# EAGLE library part NATHANS-CUSTOM-PARTS_POLOLU_MAX14870 (library explorator_mainboard_v0_90mm)
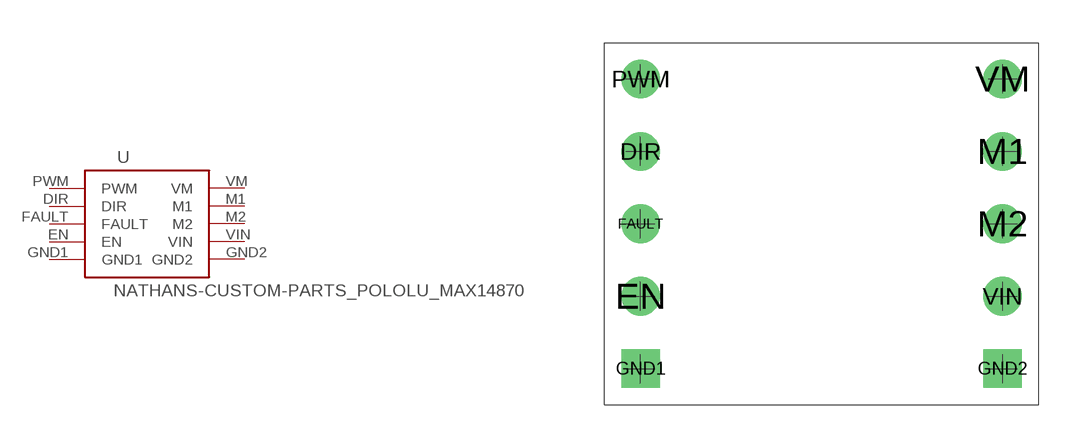
[diagram p1: symbol with the pads of NATHANS-CUSTOM-PARTS_POLOLU_MAX14870; footprint NATHANS-CUSTOM-PARTS_POLOLU_MAX14870]

Designator prefix -

## NATHANS-CUSTOM-PARTS_POLOLU_MAX14870  [NATHANS-CUSTOM-PARTS_POLOLU_MAX14870]
DIR  DIR
EN  EN
FAULT  FAULT
GND1  GND1
GND2  GND2
M1  M1
M2  M2
PWM  PWM
VIN  VIN
VM  VM

## Footprint NATHANS-CUSTOM-PARTS_POLOLU_MAX14870 (pad centres in mm)
drill 0.85: DIR 1.27,8.89; EN 1.27,3.81; FAULT 1.27,6.35; M1 13.97,8.89; M2 13.97,6.35; PWM 1.27,11.43; VIN 13.97,3.81; VM 13.97,11.43
drill 0.85 square: GND1 1.27,1.27; GND2 13.97,1.27